# EAGLE library part DS75176B (library steves)
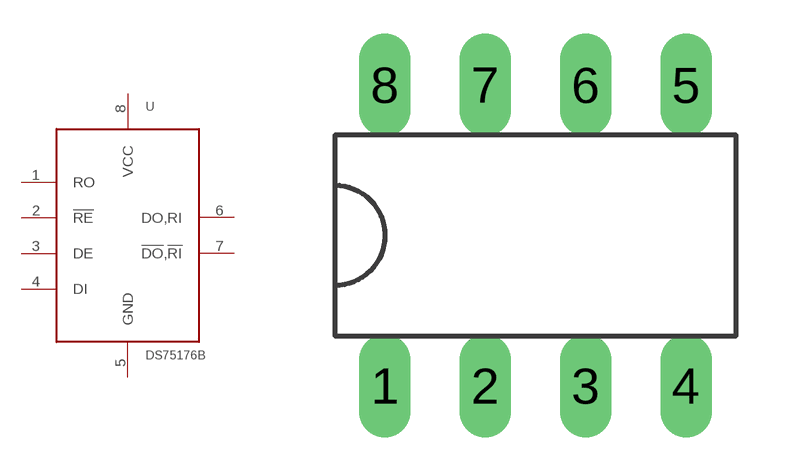
[diagram p4: symbol with the pads of DIL8; footprint DIL8]

Designator prefix U

## DS75176BN  [DIL8]
1  RO  out
2  !RE  in
3  DE  in
4  DI  in
5  GND  pwr
6  DO,RI
7  !DO,!RI
8  VCC  pwr

## Footprint DIL8 (pad centres in mm)
Standard 8-pin DIL pad, 0.3 spacing.
drill 0.8 long: 1 0,0; 2 2.54,0; 3 5.08,0; 4 7.62,0; 5 7.62,7.62; 6 5.08,7.62; 7 2.54,7.62; 8 0,7.62